# Altium schematic symbol library SCH - POWER - SWITCHMODE - TI TPS54973_PWP_28.SchLib: 1 symbol
Pins are listed as number, name and electrical type; pins without a type are passive.

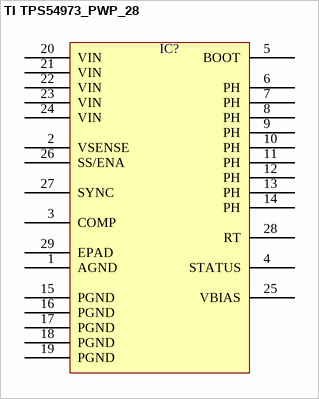
[diagram p0: symbol TI TPS54973_PWP_28]

## TI TPS54973_PWP_28
designator IC?  (value not drawn)
pins: 1 AGND, 2 VSENSE, 3 COMP, 4 STATUS, 5 BOOT, 6 PH, 7 PH, 8 PH, 9 PH, 10 PH, 11 PH, 12 PH, 13 PH, 14 PH, 15 PGND, 16 PGND, 17 PGND, 18 PGND, 19 PGND, 20 VIN, 21 VIN, 22 VIN, 23 VIN, 24 VIN, 25 VBIAS, 26 SS/ENA, 27 SYNC, 28 RT, 29 EPAD